# EAGLE library part MALE_HEADER_20X2 (library connectors)
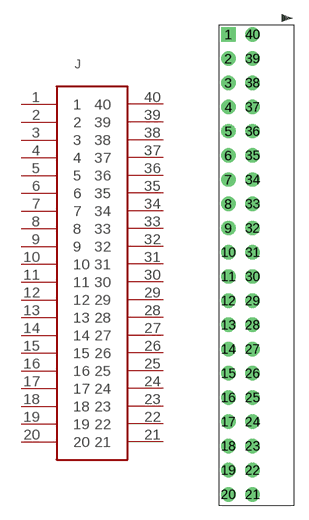
[diagram p16: symbol with the pads of 20X2_HEADER_THT_RIGHT_ANGLE; footprint 20X2_HEADER_THT_RIGHT_ANGLE]

Designator prefix J

## MALE_HEADER_20X2  [20X2_HEADER_THT_RIGHT_ANGLE]
1  1
2  2
3  3
4  4
5  5
6  6
7  7
8  8
9  9
10  10
11  11
12  12
13  13
14  14
15  15
16  16
17  17
18  18
19  19
20  20
21  21
22  22
23  23
24  24
25  25
26  26
27  27
28  28
29  29
30  30
31  31
32  32
33  33
34  34
35  35
36  36
37  37
38  38
39  39
40  40

## Footprint 20X2_HEADER_THT_RIGHT_ANGLE (pad centres in mm)
drill 1 square: 1 -1.27,24.13
drill 1: 2 -1.27,21.59; 3 -1.27,19.05; 4 -1.27,16.51; 5 -1.27,13.97; 6 -1.27,11.43; 7 -1.27,8.89; 8 -1.27,6.35; 9 -1.27,3.81; 10 -1.27,1.27; 11 -1.27,-1.27; 12 -1.27,-3.81; 13 -1.27,-6.35; 14 -1.27,-8.89; 15 -1.27,-11.43; 16 -1.27,-13.97; 17 -1.27,-16.51; 18 -1.27,-19.05; 19 -1.27,-21.59; 20 -1.27,-24.13; 21 1.27,-24.13; 22 1.27,-21.59; 23 1.27,-19.05; 24 1.27,-16.51; 25 1.27,-13.97; 26 1.27,-11.43; 27 1.27,-8.89; 28 1.27,-6.35; 29 1.27,-3.81; 30 1.27,-1.27; 31 1.27,1.27; 32 1.27,3.81; 33 1.27,6.35; 34 1.27,8.89; 35 1.27,11.43; 36 1.27,13.97; 37 1.27,16.51; 38 1.27,19.05; 39 1.27,21.59; 40 1.27,24.13